# Altium integrated library Diodes - TVS.IntLib: 5379 symbols (part 15 of 122)
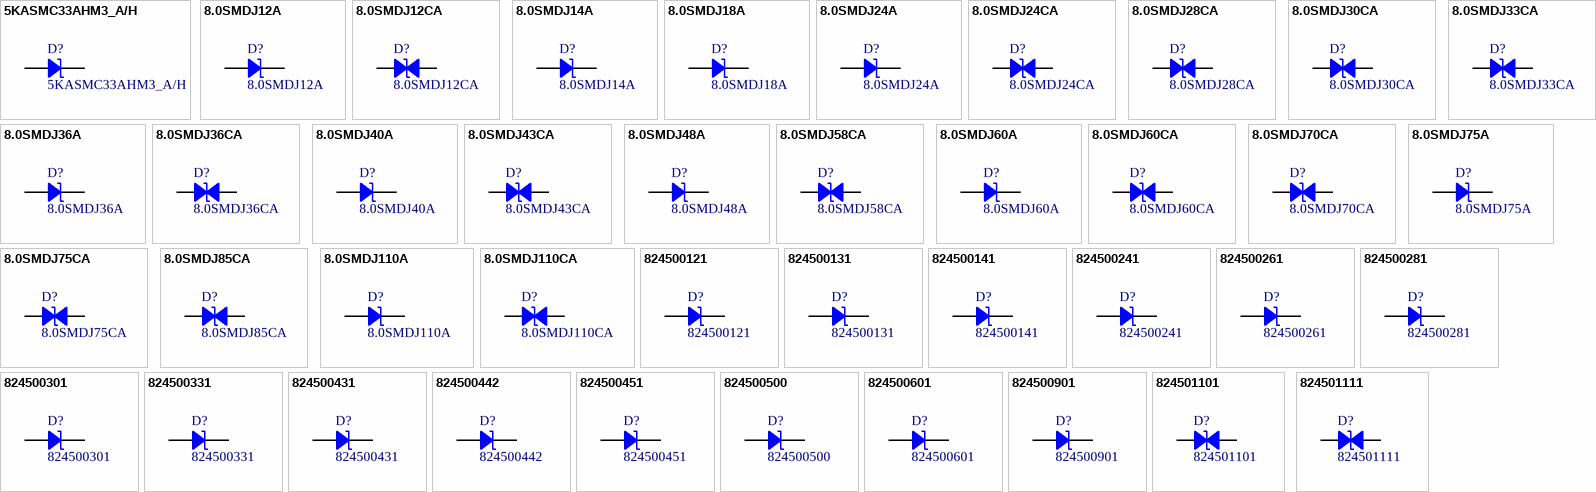
[diagram p148: symbols 5KASMC33AHM3_A/H to 824501111]

## 8.0SMDJ36CA
designator D?
TVS DIODE 8KW 36V 5%BI DO-214AB; Manufacturer: Littelfuse Inc.; Bidirectional Channels: 1; Current - Peak Pulse (10/1000µs): 137.8A; Power Line Protection: No; Power - Peak Pulse: 8000W (8kW); Type: Zener; Voltage - Breakdown (Min): 40V; Voltage - Clamping (Max) @ Ipp: 58.1V; Part Number: 8.0SMDJ36CA; Applications: Telecom; ComponentLink1Description: Datasheet; ComponentLink1URL: https://www.littelfuse.com/~/media/electronics/datasheets/tvs_diodes/littelfuse_tvs_diode_8_0smdj_datasheet.pdf.pdf; ComponentLink2Description: DigiKey Link; ComponentLink2URL: http://digikey.com/product-detail/en/littelfuse-inc/8.0SMDJ36CA/8.0SMDJ36CACT-ND/10269622; LastUpdated: 9/2/2020 1:28:05 AM; Lifecycle Status: Active; Minimum Order: 1; Mounting Type: Surface Mount; Operating Temperature: -65°C ~ 150°C (TJ); Package / Case: DO-214AB, SMC; Packaging: TapeAndReel; PartId: 8365; Part Status: Active; Price: 1.62; Series: 8.0SMDJ; Supplier 1: DigiKey; Supplier Part Number 1: 8.0SMDJ36CACT-ND; Supplier Device Package: DO-214AB (SMCJ); Voltage - Reverse Standoff (Typ): 36V
footprint DO214AB SMC
pins: 1, 2

## 8.0SMDJ40A
designator D?
TVS DIODE 8KW 40V 5%UNI DO-214AB; Manufacturer: Littelfuse Inc.; Current - Peak Pulse (10/1000µs): 124.1A; Power Line Protection: No; Power - Peak Pulse: 8000W (8kW); Type: Zener; Unidirectional Channels: 1; Voltage - Breakdown (Min): 44.4V; Voltage - Clamping (Max) @ Ipp: 64.5V; Part Number: 8.0SMDJ40A; Applications: Telecom; ComponentLink1Description: Datasheet; ComponentLink1URL: https://www.littelfuse.com/~/media/electronics/datasheets/tvs_diodes/littelfuse_tvs_diode_8_0smdj_datasheet.pdf.pdf; ComponentLink2Description: DigiKey Link; ComponentLink2URL: http://digikey.com/product-detail/en/littelfuse-inc/8.0SMDJ40A/8.0SMDJ40ACT-ND/10269623; LastUpdated: 9/2/2020 1:20:03 AM; Lifecycle Status: Active; Minimum Order: 1; Mounting Type: Surface Mount; Operating Temperature: -65°C ~ 150°C (TJ); Package / Case: DO-214AB, SMC; Packaging: TapeAndReel; PartId: 6743; Part Status: Active; Price: 1.49; Series: 8.0SMDJ; Supplier 1: DigiKey; Supplier Part Number 1: 8.0SMDJ40ACT-ND; Supplier Device Package: DO-214AB (SMCJ); Voltage - Reverse Standoff (Typ): 40V
footprint DO214AB SMC
pins: 1, 2

## 8.0SMDJ43CA
designator D?
TVS DIODE 8KW 43V 5%BI DO-214AB; Manufacturer: Littelfuse Inc.; Bidirectional Channels: 1; Current - Peak Pulse (10/1000µs): 115.3A; Power Line Protection: No; Power - Peak Pulse: 8000W (8kW); Type: Zener; Voltage - Breakdown (Min): 47.8V; Voltage - Clamping (Max) @ Ipp: 69.4V; Part Number: 8.0SMDJ43CA; Applications: Telecom; ComponentLink1Description: Datasheet; ComponentLink1URL: https://www.littelfuse.com/~/media/electronics/datasheets/tvs_diodes/littelfuse_tvs_diode_8_0smdj_datasheet.pdf.pdf; ComponentLink2Description: DigiKey Link; ComponentLink2URL: http://digikey.com/product-detail/en/littelfuse-inc/8.0SMDJ43CA/8.0SMDJ43CACT-ND/10269624; LastUpdated: 9/2/2020 1:28:06 AM; Lifecycle Status: Active; Minimum Order: 1; Mounting Type: Surface Mount; Operating Temperature: -65°C ~ 150°C (TJ); Package / Case: DO-214AB, SMC; Packaging: TapeAndReel; PartId: 8470; Part Status: Active; Price: 2.03; Series: 8.0SMDJ; Supplier 1: DigiKey; Supplier Part Number 1: 8.0SMDJ43CACT-ND; Supplier Device Package: DO-214AB (SMCJ); Voltage - Reverse Standoff (Typ): 43V
footprint DO214AB SMC
pins: 1, 2

## 8.0SMDJ48A
designator D?
TVS DIODE 8KW 48V 5%UNI DO-214AB; Manufacturer: Littelfuse Inc.; Current - Peak Pulse (10/1000µs): 103.4A; Power Line Protection: No; Power - Peak Pulse: 8000W (8kW); Type: Zener; Unidirectional Channels: 1; Voltage - Breakdown (Min): 53.3V; Voltage - Clamping (Max) @ Ipp: 77.4V; Part Number: 8.0SMDJ48A; Applications: Telecom; ComponentLink1Description: Datasheet; ComponentLink1URL: https://www.littelfuse.com/~/media/electronics/datasheets/tvs_diodes/littelfuse_tvs_diode_8_0smdj_datasheet.pdf.pdf; ComponentLink2Description: DigiKey Link; ComponentLink2URL: http://digikey.com/product-detail/en/littelfuse-inc/8.0SMDJ48A/8.0SMDJ48ACT-ND/10269625; LastUpdated: 9/2/2020 1:20:05 AM; Lifecycle Status: Active; Minimum Order: 1; Mounting Type: Surface Mount; Operating Temperature: -65°C ~ 150°C (TJ); Package / Case: DO-214AB, SMC; Packaging: TapeAndReel; PartId: 6903; Part Status: Active; Price: 1.76; Series: 8.0SMDJ; Supplier 1: DigiKey; Supplier Part Number 1: 8.0SMDJ48ACT-ND; Supplier Device Package: DO-214AB (SMCJ); Voltage - Reverse Standoff (Typ): 48V
footprint DO214AB SMC
pins: 1, 2

## 8.0SMDJ58CA
designator D?
TVS DIODE 8KW 58V 5%BI DO-214AB; Manufacturer: Littelfuse Inc.; Bidirectional Channels: 1; Current - Peak Pulse (10/1000µs): 85.5A; Power Line Protection: No; Power - Peak Pulse: 8000W (8kW); Type: Zener; Voltage - Breakdown (Min): 64.4V; Voltage - Clamping (Max) @ Ipp: 93.6V; Part Number: 8.0SMDJ58CA; Applications: Telecom; ComponentLink1Description: Datasheet; ComponentLink1URL: https://www.littelfuse.com/~/media/electronics/datasheets/tvs_diodes/littelfuse_tvs_diode_8_0smdj_datasheet.pdf.pdf; ComponentLink2Description: DigiKey Link; ComponentLink2URL: http://digikey.com/product-detail/en/littelfuse-inc/8.0SMDJ58CA/8.0SMDJ58CACT-ND/10269626; LastUpdated: 9/2/2020 1:28:06 AM; Lifecycle Status: Active; Minimum Order: 1; Mounting Type: Surface Mount; Operating Temperature: -65°C ~ 150°C (TJ); Package / Case: DO-214AB, SMC; Packaging: TapeAndReel; PartId: 8469; Part Status: Active; Price: 2.03; Series: 8.0SMDJ; Supplier 1: DigiKey; Supplier Part Number 1: 8.0SMDJ58CACT-ND; Supplier Device Package: DO-214AB (SMCJ); Voltage - Reverse Standoff (Typ): 58V
footprint DO214AB SMC
pins: 1, 2

## 8.0SMDJ60A
designator D?
TVS DIODE 8KW 60V 5%UNI DO-214AB; Manufacturer: Littelfuse Inc.; Current - Peak Pulse (10/1000µs): 82.7A; Power Line Protection: No; Power - Peak Pulse: 8000W (8kW); Type: Zener; Unidirectional Channels: 1; Voltage - Breakdown (Min): 66.7V; Voltage - Clamping (Max) @ Ipp: 96.8V; Part Number: 8.0SMDJ60A; Applications: Telecom; ComponentLink1Description: Datasheet; ComponentLink1URL: https://www.littelfuse.com/~/media/electronics/datasheets/tvs_diodes/littelfuse_tvs_diode_8_0smdj_datasheet.pdf.pdf; ComponentLink2Description: DigiKey Link; ComponentLink2URL: http://digikey.com/product-detail/en/littelfuse-inc/8.0SMDJ60A/8.0SMDJ60ACT-ND/10269627; LastUpdated: 9/2/2020 1:20:05 AM; Lifecycle Status: Active; Minimum Order: 1; Mounting Type: Surface Mount; Operating Temperature: -65°C ~ 150°C (TJ); Package / Case: DO-214AB, SMC; Packaging: TapeAndReel; PartId: 6902; Part Status: Active; Price: 1.76; Series: 8.0SMDJ; Supplier 1: DigiKey; Supplier Part Number 1: 8.0SMDJ60ACT-ND; Supplier Device Package: DO-214AB (SMCJ); Voltage - Reverse Standoff (Typ): 60V
footprint DO214AB SMC
pins: 1, 2

## 8.0SMDJ60CA
designator D?
TVS DIODE 8KW 60V 5%BI DO-214AB; Manufacturer: Littelfuse Inc.; Bidirectional Channels: 1; Current - Peak Pulse (10/1000µs): 82.7A; Power Line Protection: No; Power - Peak Pulse: 8000W (8kW); Type: Zener; Voltage - Breakdown (Min): 66.7V; Voltage - Clamping (Max) @ Ipp: 96.8V; Part Number: 8.0SMDJ60CA; Applications: Telecom; ComponentLink1Description: Datasheet; ComponentLink1URL: https://www.littelfuse.com/~/media/electronics/datasheets/tvs_diodes/littelfuse_tvs_diode_8_0smdj_datasheet.pdf.pdf; ComponentLink2Description: DigiKey Link; ComponentLink2URL: http://digikey.com/product-detail/en/littelfuse-inc/8.0SMDJ60CA/8.0SMDJ60CACT-ND/10269628; LastUpdated: 9/2/2020 1:28:06 AM; Lifecycle Status: Active; Minimum Order: 1; Mounting Type: Surface Mount; Operating Temperature: -65°C ~ 150°C (TJ); Package / Case: DO-214AB, SMC; Packaging: TapeAndReel; PartId: 8468; Part Status: Active; Price: 2.03; Series: 8.0SMDJ; Supplier 1: DigiKey; Supplier Part Number 1: 8.0SMDJ60CACT-ND; Supplier Device Package: DO-214AB (SMCJ); Voltage - Reverse Standoff (Typ): 60V
footprint DO214AB SMC
pins: 1, 2

## 8.0SMDJ70CA
designator D?
TVS DIODE 8KW 70V 5%BI DO-214AB; Manufacturer: Littelfuse Inc.; Bidirectional Channels: 1; Current - Peak Pulse (10/1000µs): 71A; Power Line Protection: No; Power - Peak Pulse: 8000W (8kW); Type: Zener; Voltage - Breakdown (Min): 77.8V; Voltage - Clamping (Max) @ Ipp: 113V; Part Number: 8.0SMDJ70CA; Applications: Telecom; ComponentLink1Description: Datasheet; ComponentLink1URL: https://www.littelfuse.com/~/media/electronics/datasheets/tvs_diodes/littelfuse_tvs_diode_8_0smdj_datasheet.pdf.pdf; ComponentLink2Description: DigiKey Link; ComponentLink2URL: http://digikey.com/product-detail/en/littelfuse-inc/8.0SMDJ70CA/8.0SMDJ70CACT-ND/10269629; LastUpdated: 9/2/2020 1:28:06 AM; Lifecycle Status: Active; Minimum Order: 1; Mounting Type: Surface Mount; Operating Temperature: -65°C ~ 150°C (TJ); Package / Case: DO-214AB, SMC; Packaging: TapeAndReel; PartId: 8466; Part Status: Active; Price: 2.03; Series: 8.0SMDJ; Supplier 1: DigiKey; Supplier Part Number 1: 8.0SMDJ70CACT-ND; Supplier Device Package: DO-214AB (SMCJ); Voltage - Reverse Standoff (Typ): 70V
footprint DO214AB SMC
pins: 1, 2

## 8.0SMDJ75A
designator D?
TVS DIODE 8KW 75V 5%UNI DO-214AB; Manufacturer: Littelfuse Inc.; Current - Peak Pulse (10/1000µs): 66.2A; Power Line Protection: No; Power - Peak Pulse: 8000W (8kW); Type: Zener; Unidirectional Channels: 1; Voltage - Breakdown (Min): 83.3V; Voltage - Clamping (Max) @ Ipp: 121V; Part Number: 8.0SMDJ75A; Applications: Telecom; ComponentLink1Description: Datasheet; ComponentLink1URL: https://www.littelfuse.com/~/media/electronics/datasheets/tvs_diodes/littelfuse_tvs_diode_8_0smdj_datasheet.pdf.pdf; ComponentLink2Description: DigiKey Link; ComponentLink2URL: http://digikey.com/product-detail/en/littelfuse-inc/8.0SMDJ75A/8.0SMDJ75ACT-ND/10269630; LastUpdated: 9/2/2020 1:20:03 AM; Lifecycle Status: Active; Minimum Order: 1; Mounting Type: Surface Mount; Operating Temperature: -65°C ~ 150°C (TJ); Package / Case: DO-214AB, SMC; Packaging: TapeAndReel; PartId: 6741; Part Status: Active; Price: 1.76; Series: 8.0SMDJ; Supplier 1: DigiKey; Supplier Part Number 1: 8.0SMDJ75ACT-ND; Supplier Device Package: DO-214AB (SMCJ); Voltage - Reverse Standoff (Typ): 75V
footprint DO214AB SMC
pins: 1, 2

## 8.0SMDJ75CA
designator D?
TVS DIODE 8KW 75V 5%BI DO-214AB; Manufacturer: Littelfuse Inc.; Bidirectional Channels: 1; Current - Peak Pulse (10/1000µs): 66.2A; Power Line Protection: No; Power - Peak Pulse: 8000W (8kW); Type: Zener; Voltage - Breakdown (Min): 83.3V; Voltage - Clamping (Max) @ Ipp: 121V; Part Number: 8.0SMDJ75CA; Applications: Telecom; ComponentLink1Description: Datasheet; ComponentLink1URL: https://www.littelfuse.com/~/media/electronics/datasheets/tvs_diodes/littelfuse_tvs_diode_8_0smdj_datasheet.pdf.pdf; ComponentLink2Description: DigiKey Link; ComponentLink2URL: http://digikey.com/product-detail/en/littelfuse-inc/8.0SMDJ75CA/8.0SMDJ75CACT-ND/10269631; LastUpdated: 9/2/2020 1:28:05 AM; Lifecycle Status: Active; Minimum Order: 1; Mounting Type: Surface Mount; Operating Temperature: -65°C ~ 150°C (TJ); Package / Case: DO-214AB, SMC; Packaging: TapeAndReel; PartId: 8363; Part Status: Active; Price: 2.03; Series: 8.0SMDJ; Supplier 1: DigiKey; Supplier Part Number 1: 8.0SMDJ75CACT-ND; Supplier Device Package: DO-214AB (SMCJ); Voltage - Reverse Standoff (Typ): 75V
footprint DO214AB SMC
pins: 1, 2

## 8.0SMDJ85CA
designator D?
TVS DIODE 8KW 85V 5%BI DO-214AB; Manufacturer: Littelfuse Inc.; Bidirectional Channels: 1; Current - Peak Pulse (10/1000µs): 58.4A; Power Line Protection: No; Power - Peak Pulse: 8000W (8kW); Type: Zener; Voltage - Breakdown (Min): 94.4V; Voltage - Clamping (Max) @ Ipp: 137V; Part Number: 8.0SMDJ85CA; Applications: Telecom; ComponentLink1Description: Datasheet; ComponentLink1URL: https://www.littelfuse.com/~/media/electronics/datasheets/tvs_diodes/littelfuse_tvs_diode_8_0smdj_datasheet.pdf.pdf; ComponentLink2Description: DigiKey Link; ComponentLink2URL: http://digikey.com/product-detail/en/littelfuse-inc/8.0SMDJ85CA/8.0SMDJ85CACT-ND/10269609; LastUpdated: 9/2/2020 1:28:06 AM; Lifecycle Status: Active; Minimum Order: 1; Mounting Type: Surface Mount; Operating Temperature: -65°C ~ 150°C (TJ); Package / Case: DO-214AB, SMC; Packaging: TapeAndReel; PartId: 8467; Part Status: Active; Price: 2.03; Series: 8.0SMDJ; Supplier 1: DigiKey; Supplier Part Number 1: 8.0SMDJ85CACT-ND; Supplier Device Package: DO-214AB (SMCJ); Voltage - Reverse Standoff (Typ): 85V
footprint DO214AB SMC
pins: 1, 2

## 8.0SMDJ110A
designator D?
TVS DIODE 8KW 110V 5%UNI DO-214A; Manufacturer: Littelfuse Inc.; Current - Peak Pulse (10/1000µs): 45.2A; Power Line Protection: No; Power - Peak Pulse: 8000W (8kW); Type: Zener; Unidirectional Channels: 1; Voltage - Breakdown (Min): 122V; Voltage - Clamping (Max) @ Ipp: 177V; Part Number: 8.0SMDJ110A; Applications: Telecom; ComponentLink1Description: Datasheet; ComponentLink1URL: https://www.littelfuse.com/~/media/electronics/datasheets/tvs_diodes/littelfuse_tvs_diode_8_0smdj_datasheet.pdf.pdf; ComponentLink2Description: DigiKey Link; ComponentLink2URL: http://digikey.com/product-detail/en/littelfuse-inc/8.0SMDJ110A/8.0SMDJ110ACT-ND/10269610; LastUpdated: 9/2/2020 1:20:03 AM; Lifecycle Status: Active; Minimum Order: 1; Mounting Type: Surface Mount; Operating Temperature: -65°C ~ 150°C (TJ); Package / Case: DO-214AB, SMC; Packaging: TapeAndReel; PartId: 6742; Part Status: Active; Price: 1.76; Series: 8.0SMDJ; Supplier 1: DigiKey; Supplier Part Number 1: 8.0SMDJ110ACT-ND; Supplier Device Package: DO-214AB (SMCJ); Voltage - Reverse Standoff (Typ): 110V
footprint DO214AB SMC
pins: 1, 2

## 8.0SMDJ110CA
designator D?
TVS DIODE 8KW 110V 5%BI DO-214AB; Manufacturer: Littelfuse Inc.; Bidirectional Channels: 1; Current - Peak Pulse (10/1000µs): 45.2A; Power Line Protection: No; Power - Peak Pulse: 8000W (8kW); Type: Zener; Voltage - Breakdown (Min): 122V; Voltage - Clamping (Max) @ Ipp: 177V; Part Number: 8.0SMDJ110CA; Applications: Telecom; ComponentLink1Description: Datasheet; ComponentLink1URL: https://www.littelfuse.com/~/media/electronics/datasheets/tvs_diodes/littelfuse_tvs_diode_8_0smdj_datasheet.pdf.pdf; ComponentLink2Description: DigiKey Link; ComponentLink2URL: http://digikey.com/product-detail/en/littelfuse-inc/8.0SMDJ110CA/8.0SMDJ110CACT-ND/10269611; LastUpdated: 9/2/2020 1:28:05 AM; Lifecycle Status: Active; Minimum Order: 1; Mounting Type: Surface Mount; Operating Temperature: -65°C ~ 150°C (TJ); Package / Case: DO-214AB, SMC; Packaging: TapeAndReel; PartId: 8364; Part Status: Active; Price: 2.03; Series: 8.0SMDJ; Supplier 1: DigiKey; Supplier Part Number 1: 8.0SMDJ110CACT-ND; Supplier Device Package: DO-214AB (SMCJ); Voltage - Reverse Standoff (Typ): 110V
footprint DO214AB SMC
pins: 1, 2

## 824500121
designator D?
TVS DIODE 12V 19.9V DO214AC; Manufacturer: Würth Elektronik; Current - Peak Pulse (10/1000µs): 20.1A; Power Line Protection: No; Power - Peak Pulse: 400W; Type: Zener; Unidirectional Channels: 1; Voltage - Breakdown (Min): 14V (Typ); Voltage - Reverse Standoff (Typ): 12V (Max); Part Number: 824500121; Applications: General Purpose; ComponentLink1Description: Datasheet; ComponentLink1URL: https://katalog.we-online.de/pbs/datasheet/824500121.pdf; ComponentLink2Description: DigiKey Link; ComponentLink2URL: http://digikey.com/product-detail/en/w-rth-elektronik/824500121/732-9984-1-ND/5871137; LastUpdated: 9/2/2020 1:20:17 AM; Lifecycle Status: Active; Minimum Order: 1; Mounting Type: Surface Mount; Operating Temperature: -65°C ~ 150°C (TJ); Package / Case: DO-214AC, SMA; Packaging: TapeAndReel; PartId: 6085; Part Status: Active; Price: 0.17; Series: WE-TVSP; Supplier 1: DigiKey; Supplier Part Number 1: 732-9984-1-ND; Supplier Device Package: DO-214AC; Voltage - Clamping (Max) @ Ipp: 19.9V
footprint DO214AC SMA
pins: 1, 2

## 824500131
designator D?
TVS DIODE 13V 21.5V DO214AC; Manufacturer: Würth Elektronik; Current - Peak Pulse (10/1000µs): 18.6A; Power Line Protection: No; Power - Peak Pulse: 400W; Type: Zener; Unidirectional Channels: 1; Voltage - Breakdown (Min): 15.15V (Typ); Voltage - Reverse Standoff (Typ): 13V (Max); Part Number: 824500131; Applications: General Purpose; ComponentLink1Description: Datasheet; ComponentLink1URL: https://katalog.we-online.de/pbs/datasheet/824500131.pdf; ComponentLink2Description: DigiKey Link; ComponentLink2URL: http://digikey.com/product-detail/en/w-rth-elektronik/824500131/732-9985-1-ND/5871138; LastUpdated: 9/2/2020 1:20:17 AM; Lifecycle Status: Active; Minimum Order: 1; Mounting Type: Surface Mount; Operating Temperature: -65°C ~ 150°C (TJ); Package / Case: DO-214AC, SMA; Packaging: TapeAndReel; PartId: 6082; Part Status: Active; Price: 0.17; Series: WE-TVSP; Supplier 1: DigiKey; Supplier Part Number 1: 732-9985-1-ND; Supplier Device Package: DO-214AC; Voltage - Clamping (Max) @ Ipp: 21.5V
footprint DO214AC SMA
pins: 1, 2

## 824500141
designator D?
TVS DIODE 14V 23.2V DO214AC; Manufacturer: Würth Elektronik; Current - Peak Pulse (10/1000µs): 17.2A; Power Line Protection: No; Power - Peak Pulse: 400W; Type: Zener; Unidirectional Channels: 1; Voltage - Breakdown (Min): 16.4V (Typ); Voltage - Reverse Standoff (Typ): 14V (Max); Part Number: 824500141; Applications: General Purpose; ComponentLink1Description: Datasheet; ComponentLink1URL: https://katalog.we-online.de/pbs/datasheet/824500141.pdf; ComponentLink2Description: DigiKey Link; ComponentLink2URL: http://digikey.com/product-detail/en/w-rth-elektronik/824500141/732-9986-1-ND/5871139; LastUpdated: 9/2/2020 1:20:17 AM; Lifecycle Status: Active; Minimum Order: 1; Mounting Type: Surface Mount; Operating Temperature: -65°C ~ 150°C (TJ); Package / Case: DO-214AC, SMA; Packaging: TapeAndReel; PartId: 6086; Part Status: Active; Price: 0.17; Series: WE-TVSP; Supplier 1: DigiKey; Supplier Part Number 1: 732-9986-1-ND; Supplier Device Package: DO-214AC; Voltage - Clamping (Max) @ Ipp: 23.2V
footprint DO214AC SMA
pins: 1, 2

## 824500241
designator D?
TVS DIODE 24V 38.9V DO214AC; Manufacturer: Würth Elektronik; Current - Peak Pulse (10/1000µs): 10.3A; Power Line Protection: No; Power - Peak Pulse: 400W; Type: Zener; Unidirectional Channels: 1; Voltage - Breakdown (Min): 28.1V (Typ); Voltage - Reverse Standoff (Typ): 24V (Max); Part Number: 824500241; Applications: General Purpose; ComponentLink1Description: Datasheet; ComponentLink1URL: https://katalog.we-online.de/pbs/datasheet/824500241.pdf; ComponentLink2Description: DigiKey Link; ComponentLink2URL: http://digikey.com/product-detail/en/w-rth-elektronik/824500241/732-9991-1-ND/5871144; LastUpdated: 9/2/2020 1:20:13 AM; Lifecycle Status: Active; Minimum Order: 1; Mounting Type: Surface Mount; Operating Temperature: -65°C ~ 150°C (TJ); Package / Case: DO-214AC, SMA; Packaging: TapeAndReel; PartId: 5614; Part Status: Active; Price: 0.17; Series: WE-TVSP; Supplier 1: DigiKey; Supplier Part Number 1: 732-9991-1-ND; Supplier Device Package: DO-214AC; Voltage - Clamping (Max) @ Ipp: 38.9V
footprint DO214AC SMA
pins: 1, 2

## 824500261
designator D?
TVS DIODE 26V 42.1V DO214AC; Manufacturer: Würth Elektronik; Current - Peak Pulse (10/1000µs): 9.5A; Power Line Protection: No; Power - Peak Pulse: 400W; Type: Zener; Unidirectional Channels: 1; Voltage - Breakdown (Min): 30.4V (Typ); Voltage - Reverse Standoff (Typ): 26V (Max); Part Number: 824500261; Applications: General Purpose; ComponentLink1Description: Datasheet; ComponentLink1URL: https://katalog.we-online.de/pbs/datasheet/824500261.pdf; ComponentLink2Description: DigiKey Link; ComponentLink2URL: http://digikey.com/product-detail/en/w-rth-elektronik/824500261/732-9987-1-ND/5871140; LastUpdated: 9/2/2020 1:20:17 AM; Lifecycle Status: Active; Minimum Order: 1; Mounting Type: Surface Mount; Operating Temperature: -65°C ~ 150°C (TJ); Package / Case: DO-214AC, SMA; Packaging: TapeAndReel; PartId: 6084; Part Status: Active; Price: 0.17; Series: WE-TVSP; Supplier 1: DigiKey; Supplier Part Number 1: 732-9987-1-ND; Supplier Device Package: DO-214AC; Voltage - Clamping (Max) @ Ipp: 42.1V
footprint DO214AC SMA
pins: 1, 2

## 824500281
designator D?
TVS DIODE 28V 45.4V DO214AC; Manufacturer: Würth Elektronik; Current - Peak Pulse (10/1000µs): 8.8A; Power Line Protection: No; Power - Peak Pulse: 400W; Type: Zener; Unidirectional Channels: 1; Voltage - Breakdown (Min): 32.75V (Typ); Voltage - Reverse Standoff (Typ): 28V (Max); Part Number: 824500281; Applications: General Purpose; ComponentLink1Description: Datasheet; ComponentLink1URL: https://katalog.we-online.de/pbs/datasheet/824500281.pdf; ComponentLink2Description: DigiKey Link; ComponentLink2URL: http://digikey.com/product-detail/en/w-rth-elektronik/824500281/732-9988-1-ND/5871141; LastUpdated: 9/2/2020 1:20:17 AM; Lifecycle Status: Active; Minimum Order: 0; Mounting Type: Surface Mount; Operating Temperature: -65°C ~ 150°C (TJ); Package / Case: DO-214AC, SMA; Packaging: TapeAndReel; PartId: 6087; Part Status: Active; Price: 0.17; Series: WE-TVSP; Supplier 1: DigiKey; Supplier Part Number 1: 732-9988-1-ND; Supplier Device Package: DO-214AC; Voltage - Clamping (Max) @ Ipp: 45.4V
footprint DO214AC SMA
pins: 1, 2

## 824500301
designator D?
TVS DIODE 30V 48.4V DO214AC; Manufacturer: Würth Elektronik; Current - Peak Pulse (10/1000µs): 8.3A; Power Line Protection: No; Power - Peak Pulse: 400W; Type: Zener; Unidirectional Channels: 1; Voltage - Breakdown (Min): 35.05V (Typ); Voltage - Reverse Standoff (Typ): 30V (Max); Part Number: 824500301; Applications: General Purpose; ComponentLink1Description: Datasheet; ComponentLink1URL: https://katalog.we-online.de/pbs/datasheet/824500301.pdf; ComponentLink2Description: DigiKey Link; ComponentLink2URL: http://digikey.com/product-detail/en/w-rth-elektronik/824500301/732-9993-1-ND/5871146; LastUpdated: 9/2/2020 1:20:17 AM; Lifecycle Status: Active; Minimum Order: 1; Mounting Type: Surface Mount; Operating Temperature: -65°C ~ 150°C (TJ); Package / Case: DO-214AC, SMA; Packaging: TapeAndReel; PartId: 6083; Part Status: Active; Price: 0.17; Series: WE-TVSP; Supplier 1: DigiKey; Supplier Part Number 1: 732-9993-1-ND; Supplier Device Package: DO-214AC; Voltage - Clamping (Max) @ Ipp: 48.4V
footprint DO214AC SMA
pins: 1, 2

## 824500331
designator D?
TVS DIODE 33V 53.3V DO214AC; Manufacturer: Würth Elektronik; Current - Peak Pulse (10/1000µs): 7.5A; Power Line Protection: No; Power - Peak Pulse: 400W; Type: Zener; Unidirectional Channels: 1; Voltage - Breakdown (Min): 38.65V (Typ); Voltage - Reverse Standoff (Typ): 33V (Max); Part Number: 824500331; Applications: General Purpose; ComponentLink1Description: Datasheet; ComponentLink1URL: https://katalog.we-online.de/pbs/datasheet/824500331.pdf; ComponentLink2Description: DigiKey Link; ComponentLink2URL: http://digikey.com/product-detail/en/w-rth-elektronik/824500331/732-9994-1-ND/5871147; LastUpdated: 9/2/2020 1:20:17 AM; Lifecycle Status: Active; Minimum Order: 0; Mounting Type: Surface Mount; Operating Temperature: -65°C ~ 150°C (TJ); Package / Case: DO-214AC, SMA; Packaging: TapeAndReel; PartId: 6088; Part Status: Active; Price: 0.17; Series: WE-TVSP; Supplier 1: DigiKey; Supplier Part Number 1: 732-9994-1-ND; Supplier Device Package: DO-214AC; Voltage - Clamping (Max) @ Ipp: 53.3V
footprint DO214AC SMA
pins: 1, 2

## 824500431
designator D?
TVS DIODE 43V 69.4V DO214AC; Manufacturer: Würth Elektronik; Current - Peak Pulse (10/1000µs): 5.8A; Power Line Protection: No; Power - Peak Pulse: 400W; Type: Zener; Unidirectional Channels: 1; Voltage - Breakdown (Min): 50.3V (Typ); Voltage - Reverse Standoff (Typ): 43V (Max); Part Number: 824500431; Applications: General Purpose; ComponentLink1Description: Datasheet; ComponentLink1URL: https://katalog.we-online.de/pbs/datasheet/824500431.pdf; ComponentLink2Description: DigiKey Link; ComponentLink2URL: http://digikey.com/product-detail/en/w-rth-elektronik/824500431/732-9996-1-ND/5871149; LastUpdated: 9/2/2020 1:20:17 AM; Lifecycle Status: Active; Minimum Order: 1; Mounting Type: Surface Mount; Operating Temperature: -65°C ~ 150°C (TJ); Package / Case: DO-214AC, SMA; Packaging: TapeAndReel; PartId: 6081; Part Status: Active; Price: 0.17; Series: WE-TVSP; Supplier 1: DigiKey; Supplier Part Number 1: 732-9996-1-ND; Supplier Device Package: DO-214AC; Voltage - Clamping (Max) @ Ipp: 69.4V
footprint DO214AC SMA
pins: 1, 2

## 824500442
designator D?
WE-TVSP POWER TVS DIODE; Manufacturer: Würth Elektronik; Current - Peak Pulse (10/1000µs): 40A; Power Line Protection: No; Type: Zener; Unidirectional Channels: 1; Voltage - Breakdown (Min): 517.5V; Voltage - Clamping (Max) @ Ipp: 713V; Voltage - Reverse Standoff (Typ): 440V (Max); Part Number: 824500442; Applications: General Purpose; ComponentLink2Description: DigiKey Link; ComponentLink2URL: http://digikey.com/product-detail/en/würth-elektronik/824500442/732-824500442CT-ND/12727237; LastUpdated: 8/30/2020 9:01:15 PM; Lifecycle Status: Active; Minimum Order: 1; Mounting Type: Surface Mount; Operating Temperature: -65°C ~ 150°C (TA); Package / Case: DO-214AC, SMA; Packaging: TapeAndReel; PartId: 11474; Price: 0.40; Series: WE-TVSP; Supplier 1: DigiKey; Supplier Part Number 1: 732-824500442CT-ND; Supplier Device Package: DO-214AC
footprint DO214AC SMA
pins: 1, 2

## 824500451
designator D?
TVS DIODE 45V 72.7V DO214AC; Manufacturer: Würth Elektronik; Current - Peak Pulse (10/1000µs): 5.5A; Power Line Protection: No; Power - Peak Pulse: 400W; Type: Zener; Unidirectional Channels: 1; Voltage - Breakdown (Min): 52.65V (Typ); Voltage - Reverse Standoff (Typ): 45V (Max); Part Number: 824500451; Applications: General Purpose; ComponentLink1Description: Datasheet; ComponentLink1URL: https://katalog.we-online.de/pbs/datasheet/824500451.pdf; ComponentLink2Description: DigiKey Link; ComponentLink2URL: http://digikey.com/product-detail/en/w-rth-elektronik/824500451/732-9997-1-ND/5871150; LastUpdated: 9/2/2020 1:20:13 AM; Lifecycle Status: Active; Minimum Order: 1; Mounting Type: Surface Mount; Operating Temperature: -65°C ~ 150°C (TJ); Package / Case: DO-214AC, SMA; Packaging: TapeAndReel; PartId: 5622; Part Status: Active; Price: 0.17; Series: WE-TVSP; Supplier 1: DigiKey; Supplier Part Number 1: 732-9997-1-ND; Supplier Device Package: DO-214AC; Voltage - Clamping (Max) @ Ipp: 72.7V
footprint DO214AC SMA
pins: 1, 2

## 824500500
designator D?
TVS DIODE 5V 9.2V DO214AC; Manufacturer: Würth Elektronik; Current - Peak Pulse (10/1000µs): 43.5A; Power Line Protection: No; Power - Peak Pulse: 400W; Type: Zener; Unidirectional Channels: 1; Voltage - Breakdown (Min): 6.7V (Typ); Voltage - Reverse Standoff (Typ): 5V (Max); Part Number: 824500500; Applications: General Purpose; ComponentLink1Description: Datasheet; ComponentLink1URL: https://katalog.we-online.de/pbs/datasheet/824500500.pdf; ComponentLink2Description: DigiKey Link; ComponentLink2URL: http://digikey.com/product-detail/en/w-rth-elektronik/824500500/732-9974-1-ND/5871127; LastUpdated: 9/2/2020 1:20:18 AM; Lifecycle Status: Active; Minimum Order: 1; Mounting Type: Surface Mount; Operating Temperature: -65°C ~ 150°C (TJ); Package / Case: DO-214AC, SMA; Packaging: TapeAndReel; PartId: 6137; Part Status: Active; Price: 0.17; Series: WE-TVSP; Supplier 1: DigiKey; Supplier Part Number 1: 732-9974-1-ND; Supplier Device Package: DO-214AC; Voltage - Clamping (Max) @ Ipp: 9.2V
footprint DO214AC SMA
pins: 1, 2

## 824500601
designator D?
TVS DIODE 60V 96.8V DO214AC; Manufacturer: Würth Elektronik; Current - Peak Pulse (10/1000µs): 4.1A; Power Line Protection: No; Power - Peak Pulse: 400W; Type: Zener; Unidirectional Channels: 1; Voltage - Breakdown (Min): 70.2V (Typ); Voltage - Reverse Standoff (Typ): 60V (Max); Part Number: 824500601; Applications: General Purpose; ComponentLink1Description: Datasheet; ComponentLink1URL: https://katalog.we-online.de/pbs/datasheet/824500601.pdf; ComponentLink2Description: DigiKey Link; ComponentLink2URL: http://digikey.com/product-detail/en/w-rth-elektronik/824500601/732-10001-1-ND/5871154; LastUpdated: 9/2/2020 1:20:17 AM; Lifecycle Status: Active; Minimum Order: 1; Mounting Type: Surface Mount; Operating Temperature: -65°C ~ 150°C (TJ); Package / Case: DO-214AC, SMA; Packaging: TapeAndReel; PartId: 6090; Part Status: Active; Price: 0.17; Series: WE-TVSP; Supplier 1: DigiKey; Supplier Part Number 1: 732-10001-1-ND; Supplier Device Package: DO-214AC; Voltage - Clamping (Max) @ Ipp: 96.8V
footprint DO214AC SMA
pins: 1, 2

## 824500901
designator D?
TVS DIODE 90V 146V DO214AC; Manufacturer: Würth Elektronik; Current - Peak Pulse (10/1000µs): 2.7A; Power Line Protection: No; Power - Peak Pulse: 400W; Type: Zener; Unidirectional Channels: 1; Voltage - Breakdown (Min): 105.5V (Typ); Voltage - Reverse Standoff (Typ): 90V (Max); Part Number: 824500901; Applications: General Purpose; ComponentLink1Description: Datasheet; ComponentLink1URL: https://katalog.we-online.de/pbs/datasheet/824500901.pdf; ComponentLink2Description: DigiKey Link; ComponentLink2URL: http://digikey.com/product-detail/en/w-rth-elektronik/824500901/732-10007-1-ND/5871160; LastUpdated: 9/2/2020 1:20:17 AM; Lifecycle Status: Active; Minimum Order: 0; Mounting Type: Surface Mount; Operating Temperature: -65°C ~ 150°C (TJ); Package / Case: DO-214AC, SMA; Packaging: TapeAndReel; PartId: 6089; Part Status: Active; Price: 0.17; Series: WE-TVSP; Supplier 1: DigiKey; Supplier Part Number 1: 732-10007-1-ND; Supplier Device Package: DO-214AC; Voltage - Clamping (Max) @ Ipp: 146V
footprint DO214AC SMA
pins: 1, 2

## 824501101
designator D?
TVS DIODE 10V 17V DO214AC; Manufacturer: Würth Elektronik; Bidirectional Channels: 1; Current - Peak Pulse (10/1000µs): 23.5A; Power Line Protection: No; Power - Peak Pulse: 400W; Type: Zener; Voltage - Breakdown (Min): 11.7V (Typ); Voltage - Reverse Standoff (Typ): 10V (Max); Part Number: 824501101; Applications: General Purpose; ComponentLink1Description: Datasheet; ComponentLink1URL: https://katalog.we-online.de/pbs/datasheet/824501101.pdf; ComponentLink2Description: DigiKey Link; ComponentLink2URL: http://digikey.com/product-detail/en/w-rth-elektronik/824501101/732-9947-1-ND/5871101; LastUpdated: 9/2/2020 1:27:53 AM; Lifecycle Status: Active; Minimum Order: 1; Mounting Type: Surface Mount; Operating Temperature: -65°C ~ 150°C (TJ); Package / Case: DO-214AC, SMA; Packaging: TapeAndReel; PartId: 7631; Part Status: Active; Price: 0.17; Series: WE-TVSP; Supplier 1: DigiKey; Supplier Part Number 1: 732-9947-1-ND; Supplier Device Package: DO-214AC; Voltage - Clamping (Max) @ Ipp: 17V
footprint DO214AC SMA
pins: 1, 2

## 824501111
designator D?
TVS DIODE 11V 18.2V DO214AC; Manufacturer: Würth Elektronik; Bidirectional Channels: 1; Current - Peak Pulse (10/1000µs): 22A; Power Line Protection: No; Power - Peak Pulse: 400W; Type: Zener; Voltage - Breakdown (Min): 12.85V (Typ); Voltage - Reverse Standoff (Typ): 11V (Max); Part Number: 824501111; Applications: General Purpose; ComponentLink1Description: Datasheet; ComponentLink1URL: https://katalog.we-online.de/pbs/datasheet/824501111.pdf; ComponentLink2Description: DigiKey Link; ComponentLink2URL: http://digikey.com/product-detail/en/w-rth-elektronik/824501111/732-9948-1-ND/5871102; LastUpdated: 9/2/2020 1:27:51 AM; Lifecycle Status: Active; Minimum Order: 1; Mounting Type: Surface Mount; Operating Temperature: -65°C ~ 150°C (TJ); Package / Case: DO-214AC, SMA; Packaging: TapeAndReel; PartId: 7334; Part Status: Active; Price: 0.17; Series: WE-TVSP; Supplier 1: DigiKey; Supplier Part Number 1: 732-9948-1-ND; Supplier Device Package: DO-214AC; Voltage - Clamping (Max) @ Ipp: 18.2V
footprint DO214AC SMA
pins: 1, 2

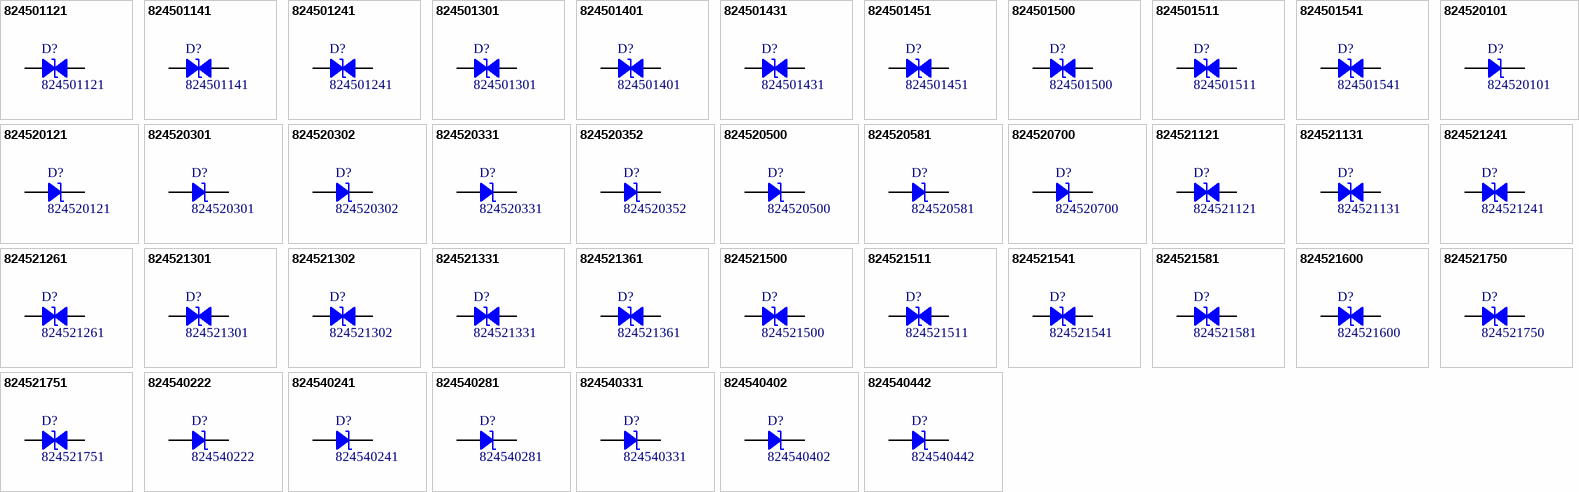
[diagram p16: symbols 824501121 to 824540442]

## 824501121
designator D?
TVS DIODE 12V 19.9V DO214AC; Manufacturer: Würth Elektronik; Bidirectional Channels: 1; Current - Peak Pulse (10/1000µs): 20.1A; Power Line Protection: No; Power - Peak Pulse: 400W; Type: Zener; Voltage - Breakdown (Min): 14V (Typ); Voltage - Reverse Standoff (Typ): 12V (Max); Part Number: 824501121; Applications: General Purpose; ComponentLink1Description: Datasheet; ComponentLink1URL: https://katalog.we-online.de/pbs/datasheet/824501121.pdf; ComponentLink2Description: DigiKey Link; ComponentLink2URL: http://digikey.com/product-detail/en/w-rth-elektronik/824501121/732-9949-1-ND/5871103; LastUpdated: 9/2/2020 1:27:55 AM; Lifecycle Status: Active; Minimum Order: 1; Mounting Type: Surface Mount; Operating Temperature: -65°C ~ 150°C (TJ); Package / Case: DO-214AC, SMA; Packaging: TapeAndReel; PartId: 7760; Part Status: Active; Price: 0.17; Series: WE-TVSP; Supplier 1: DigiKey; Supplier Part Number 1: 732-9949-1-ND; Supplier Device Package: DO-214AC; Voltage - Clamping (Max) @ Ipp: 19.9V
footprint DO214AC SMA
pins: 1, 2

## 824501141
designator D?
TVS DIODE 14V 23.2V DO214AC; Manufacturer: Würth Elektronik; Bidirectional Channels: 1; Current - Peak Pulse (10/1000µs): 17.2A; Power Line Protection: No; Power - Peak Pulse: 400W; Type: Zener; Voltage - Breakdown (Min): 16.4V (Typ); Voltage - Reverse Standoff (Typ): 14V (Max); Part Number: 824501141; Applications: General Purpose; ComponentLink1Description: Datasheet; ComponentLink1URL: https://katalog.we-online.de/pbs/datasheet/824501141.pdf; ComponentLink2Description: DigiKey Link; ComponentLink2URL: http://digikey.com/product-detail/en/w-rth-elektronik/824501141/732-9951-1-ND/5871104; LastUpdated: 9/2/2020 1:27:53 AM; Lifecycle Status: Active; Minimum Order: 0; Mounting Type: Surface Mount; Operating Temperature: -65°C ~ 150°C (TJ); Package / Case: DO-214AC, SMA; Packaging: TapeAndReel; PartId: 7636; Part Status: Active; Price: 0.17; Series: WE-TVSP; Supplier 1: DigiKey; Supplier Part Number 1: 732-9951-1-ND; Supplier Device Package: DO-214AC; Voltage - Clamping (Max) @ Ipp: 23.2V
footprint DO214AC SMA
pins: 1, 2

## 824501241
designator D?
TVS DIODE 24V 38.9V DO214AC; Manufacturer: Würth Elektronik; Bidirectional Channels: 1; Current - Peak Pulse (10/1000µs): 10.3A; Power Line Protection: No; Power - Peak Pulse: 400W; Type: Zener; Voltage - Breakdown (Min): 28.1V (Typ); Voltage - Reverse Standoff (Typ): 24V (Max); Part Number: 824501241; Applications: General Purpose; ComponentLink1Description: Datasheet; ComponentLink1URL: https://katalog.we-online.de/pbs/datasheet/824501241.pdf; ComponentLink2Description: DigiKey Link; ComponentLink2URL: http://digikey.com/product-detail/en/w-rth-elektronik/824501241/732-9956-1-ND/5871109; LastUpdated: 9/2/2020 1:27:53 AM; Lifecycle Status: Active; Minimum Order: 1; Mounting Type: Surface Mount; Operating Temperature: -65°C ~ 150°C (TJ); Package / Case: DO-214AC, SMA; Packaging: TapeAndReel; PartId: 7634; Part Status: Active; Price: 0.17; Series: WE-TVSP; Supplier 1: DigiKey; Supplier Part Number 1: 732-9956-1-ND; Supplier Device Package: DO-214AC; Voltage - Clamping (Max) @ Ipp: 38.9V
footprint DO214AC SMA
pins: 1, 2

## 824501301
designator D?
TVS DIODE 30V 48.4V DO214AC; Manufacturer: Würth Elektronik; Bidirectional Channels: 1; Current - Peak Pulse (10/1000µs): 8.3A; Power Line Protection: No; Power - Peak Pulse: 400W; Type: Zener; Voltage - Breakdown (Min): 35.05V (Typ); Voltage - Reverse Standoff (Typ): 30V (Max); Part Number: 824501301; Applications: General Purpose; ComponentLink1Description: Datasheet; ComponentLink1URL: https://katalog.we-online.de/pbs/datasheet/824501301.pdf; ComponentLink2Description: DigiKey Link; ComponentLink2URL: http://digikey.com/product-detail/en/w-rth-elektronik/824501301/732-9958-1-ND/5871111; LastUpdated: 9/2/2020 1:27:53 AM; Lifecycle Status: Active; Minimum Order: 1; Mounting Type: Surface Mount; Operating Temperature: -65°C ~ 150°C (TJ); Package / Case: DO-214AC, SMA; Packaging: TapeAndReel; PartId: 7629; Part Status: Active; Price: 0.17; Series: WE-TVSP; Supplier 1: DigiKey; Supplier Part Number 1: 732-9958-1-ND; Supplier Device Package: DO-214AC; Voltage - Clamping (Max) @ Ipp: 48.4V
footprint DO214AC SMA
pins: 1, 2

## 824501401
designator D?
TVS DIODE 40V 64.5V DO214AC; Manufacturer: Würth Elektronik; Bidirectional Channels: 1; Current - Peak Pulse (10/1000µs): 6.1A; Power Line Protection: No; Power - Peak Pulse: 400W; Type: Zener; Voltage - Breakdown (Min): 46.75V (Typ); Voltage - Reverse Standoff (Typ): 40V (Max); Part Number: 824501401; Applications: General Purpose; ComponentLink1Description: Datasheet; ComponentLink1URL: https://katalog.we-online.de/pbs/datasheet/824501401.pdf; ComponentLink2Description: DigiKey Link; ComponentLink2URL: http://digikey.com/product-detail/en/w-rth-elektronik/824501401/732-9960-1-ND/5871113; LastUpdated: 9/2/2020 1:27:53 AM; Lifecycle Status: Active; Minimum Order: 1; Mounting Type: Surface Mount; Operating Temperature: -65°C ~ 150°C (TJ); Package / Case: DO-214AC, SMA; Packaging: TapeAndReel; PartId: 7635; Part Status: Active; Price: 0.17; Series: WE-TVSP; Supplier 1: DigiKey; Supplier Part Number 1: 732-9960-1-ND; Supplier Device Package: DO-214AC; Voltage - Clamping (Max) @ Ipp: 64.5V
footprint DO214AC SMA
pins: 1, 2

## 824501431
designator D?
TVS DIODE 43V 69.4V DO214AC; Manufacturer: Würth Elektronik; Bidirectional Channels: 1; Current - Peak Pulse (10/1000µs): 5.8A; Power Line Protection: No; Power - Peak Pulse: 400W; Type: Zener; Voltage - Breakdown (Min): 50.3V (Typ); Voltage - Reverse Standoff (Typ): 43V (Max); Part Number: 824501431; Applications: General Purpose; ComponentLink1Description: Datasheet; ComponentLink1URL: https://katalog.we-online.de/pbs/datasheet/824501431.pdf; ComponentLink2Description: DigiKey Link; ComponentLink2URL: http://digikey.com/product-detail/en/w-rth-elektronik/824501431/732-9961-1-ND/5871114; LastUpdated: 9/2/2020 1:27:53 AM; Lifecycle Status: Active; Minimum Order: 1; Mounting Type: Surface Mount; Operating Temperature: -65°C ~ 150°C (TJ); Package / Case: DO-214AC, SMA; Packaging: TapeAndReel; PartId: 7638; Part Status: Active; Price: 0.17; Series: WE-TVSP; Supplier 1: DigiKey; Supplier Part Number 1: 732-9961-1-ND; Supplier Device Package: DO-214AC; Voltage - Clamping (Max) @ Ipp: 69.4V
footprint DO214AC SMA
pins: 1, 2

## 824501451
designator D?
TVS DIODE 45V 72.7V DO214AC; Manufacturer: Würth Elektronik; Bidirectional Channels: 1; Current - Peak Pulse (10/1000µs): 5.5A; Power Line Protection: No; Power - Peak Pulse: 400W; Type: Zener; Voltage - Breakdown (Min): 52.65V (Typ); Voltage - Reverse Standoff (Typ): 45V (Max); Part Number: 824501451; Applications: General Purpose; ComponentLink1Description: Datasheet; ComponentLink1URL: https://katalog.we-online.de/pbs/datasheet/824501451.pdf; ComponentLink2Description: DigiKey Link; ComponentLink2URL: http://digikey.com/product-detail/en/w-rth-elektronik/824501451/732-9962-1-ND/5871115; LastUpdated: 9/2/2020 1:27:53 AM; Lifecycle Status: Active; Minimum Order: 1; Mounting Type: Surface Mount; Operating Temperature: -65°C ~ 150°C (TJ); Package / Case: DO-214AC, SMA; Packaging: TapeAndReel; PartId: 7632; Part Status: Active; Price: 0.17; Series: WE-TVSP; Supplier 1: DigiKey; Supplier Part Number 1: 732-9962-1-ND; Supplier Device Package: DO-214AC; Voltage - Clamping (Max) @ Ipp: 72.7V
footprint DO214AC SMA
pins: 1, 2

## 824501500
designator D?
TVS DIODE 5V 9.2V DO214AC; Manufacturer: Würth Elektronik; Bidirectional Channels: 1; Current - Peak Pulse (10/1000µs): 43.5A; Power Line Protection: No; Power - Peak Pulse: 400W; Type: Zener; Voltage - Breakdown (Min): 6.7V (Typ); Voltage - Reverse Standoff (Typ): 5V (Max); Part Number: 824501500; Applications: General Purpose; ComponentLink1Description: Datasheet; ComponentLink1URL: https://katalog.we-online.de/pbs/datasheet/824501500.pdf; ComponentLink2Description: DigiKey Link; ComponentLink2URL: http://digikey.com/product-detail/en/w-rth-elektronik/824501500/732-9939-1-ND/5871093; LastUpdated: 9/2/2020 1:27:55 AM; Lifecycle Status: Active; Minimum Order: 1; Mounting Type: Surface Mount; Operating Temperature: -65°C ~ 150°C (TJ); Package / Case: DO-214AC, SMA; Packaging: TapeAndReel; PartId: 7820; Part Status: Active; Price: 0.17; Series: WE-TVSP; Supplier 1: DigiKey; Supplier Part Number 1: 732-9939-1-ND; Supplier Device Package: DO-214AC; Voltage - Clamping (Max) @ Ipp: 9.2V
footprint DO214AC SMA
pins: 1, 2

## 824501511
designator D?
TVS DIODE 51V 82.4V DO214AC; Manufacturer: Würth Elektronik; Bidirectional Channels: 1; Current - Peak Pulse (10/1000µs): 4.9A; Power Line Protection: No; Power - Peak Pulse: 400W; Type: Zener; Voltage - Breakdown (Min): 59.7V (Typ); Voltage - Reverse Standoff (Typ): 51V (Max); Part Number: 824501511; Applications: General Purpose; ComponentLink1Description: Datasheet; ComponentLink1URL: https://katalog.we-online.de/pbs/datasheet/824501511.pdf; ComponentLink2Description: DigiKey Link; ComponentLink2URL: http://digikey.com/product-detail/en/w-rth-elektronik/824501511/732-9963-1-ND/5871116; LastUpdated: 9/2/2020 1:27:53 AM; Lifecycle Status: Active; Minimum Order: 1; Mounting Type: Surface Mount; Operating Temperature: -65°C ~ 150°C (TJ); Package / Case: DO-214AC, SMA; Packaging: TapeAndReel; PartId: 7630; Part Status: Active; Price: 0.17; Series: WE-TVSP; Supplier 1: DigiKey; Supplier Part Number 1: 732-9963-1-ND; Supplier Device Package: DO-214AC; Voltage - Clamping (Max) @ Ipp: 82.4V
footprint DO214AC SMA
pins: 1, 2

## 824501541
designator D?
TVS DIODE 54V 87.1V DO214AC; Manufacturer: Würth Elektronik; Bidirectional Channels: 1; Current - Peak Pulse (10/1000µs): 4.6A; Power Line Protection: No; Power - Peak Pulse: 400W; Type: Zener; Voltage - Breakdown (Min): 63.15V (Typ); Voltage - Reverse Standoff (Typ): 54V (Max); Part Number: 824501541; Applications: General Purpose; ComponentLink1Description: Datasheet; ComponentLink1URL: https://katalog.we-online.de/pbs/datasheet/824501541.pdf; ComponentLink2Description: DigiKey Link; ComponentLink2URL: http://digikey.com/product-detail/en/w-rth-elektronik/824501541/732-9964-1-ND/5871117; LastUpdated: 9/2/2020 1:27:53 AM; Lifecycle Status: Active; Minimum Order: 1; Mounting Type: Surface Mount; Operating Temperature: -65°C ~ 150°C (TJ); Package / Case: DO-214AC, SMA; Packaging: TapeAndReel; PartId: 7633; Part Status: Active; Price: 0.17; Series: WE-TVSP; Supplier 1: DigiKey; Supplier Part Number 1: 732-9964-1-ND; Supplier Device Package: DO-214AC; Voltage - Clamping (Max) @ Ipp: 87.1V
footprint DO214AC SMA
pins: 1, 2

## 824520101
designator D?
TVS DIODE 10V 17V DO214AA; Manufacturer: Würth Elektronik; Current - Peak Pulse (10/1000µs): 35.3A; Power Line Protection: No; Power - Peak Pulse: 600W; Type: Zener; Unidirectional Channels: 1; Voltage - Breakdown (Min): 11.7V (Typ); Voltage - Reverse Standoff (Typ): 10V (Max); Part Number: 824520101; Applications: General Purpose; ComponentLink1Description: Datasheet; ComponentLink1URL: https://katalog.we-online.de/pbs/datasheet/824520101.pdf; ComponentLink2Description: DigiKey Link; ComponentLink2URL: http://digikey.com/product-detail/en/w-rth-elektronik/824520101/732-9772-1-ND/5870926; LastUpdated: 9/2/2020 1:19:49 AM; Lifecycle Status: Active; Minimum Order: 0; Mounting Type: Surface Mount; Operating Temperature: -65°C ~ 150°C (TJ); Package / Case: DO-214AA, SMB; Packaging: TapeAndReel; PartId: 11157; Part Status: Active; Price: 0.24; Series: WE-TVSP; Supplier 1: DigiKey; Supplier Part Number 1: 732-9772-1-ND; Supplier Device Package: DO-214AA; Voltage - Clamping (Max) @ Ipp: 17V
footprint DO214AA SMB
pins: 1, 2

## 824520121
designator D?
TVS DIODE 12V 19.9V DO214AA; Manufacturer: Würth Elektronik; Current - Peak Pulse (10/1000µs): 30.2A; Power Line Protection: No; Power - Peak Pulse: 600W; Type: Zener; Unidirectional Channels: 1; Voltage - Breakdown (Min): 14V (Typ); Voltage - Reverse Standoff (Typ): 12V (Max); Part Number: 824520121; Applications: General Purpose; ComponentLink1Description: Datasheet; ComponentLink1URL: https://katalog.we-online.de/pbs/datasheet/824520121.pdf; ComponentLink2Description: DigiKey Link; ComponentLink2URL: http://digikey.com/product-detail/en/w-rth-elektronik/824520121/732-9774-1-ND/5870928; LastUpdated: 9/2/2020 1:19:51 AM; Lifecycle Status: Active; Minimum Order: 1; Mounting Type: Surface Mount; Operating Temperature: -65°C ~ 150°C (TJ); Package / Case: DO-214AA, SMB; Packaging: TapeAndReel; PartId: 11325; Part Status: Active; Price: 0.24; Series: WE-TVSP; Supplier 1: DigiKey; Supplier Part Number 1: 732-9774-1-ND; Supplier Device Package: DO-214AA; Voltage - Clamping (Max) @ Ipp: 19.9V
footprint DO214AA SMB
pins: 1, 2

## 824520301
designator D?
TVS DIODE 30V 48.4V DO214AA; Manufacturer: Würth Elektronik; Current - Peak Pulse (10/1000µs): 12.4A; Power Line Protection: No; Power - Peak Pulse: 600W; Type: Zener; Unidirectional Channels: 1; Voltage - Breakdown (Min): 35.05V (Typ); Voltage - Reverse Standoff (Typ): 30V (Max); Part Number: 824520301; Applications: General Purpose; ComponentLink1Description: Datasheet; ComponentLink1URL: https://katalog.we-online.de/pbs/datasheet/824520301.pdf; ComponentLink2Description: DigiKey Link; ComponentLink2URL: http://digikey.com/product-detail/en/w-rth-elektronik/824520301/732-9782-1-ND/5870936; LastUpdated: 9/2/2020 1:19:49 AM; Lifecycle Status: Active; Minimum Order: 1; Mounting Type: Surface Mount; Operating Temperature: -65°C ~ 150°C (TJ); Package / Case: DO-214AA, SMB; Packaging: TapeAndReel; PartId: 11151; Part Status: Active; Price: 0.24; Series: WE-TVSP; Supplier 1: DigiKey; Supplier Part Number 1: 732-9782-1-ND; Supplier Device Package: DO-214AA; Voltage - Clamping (Max) @ Ipp: 48.4V
footprint DO214AA SMB
pins: 1, 2

## 824520302
designator D?
WE-TVSP POWER TVS DIODE; Manufacturer: Würth Elektronik; Current - Peak Pulse (10/1000µs): 100A; Power Line Protection: No; Type: Zener; Unidirectional Channels: 1; Voltage - Breakdown (Min): 353V; Voltage - Clamping (Max) @ Ipp: 486V; Voltage - Reverse Standoff (Typ): 300V (Max); Part Number: 824520302; Applications: General Purpose; ComponentLink2Description: DigiKey Link; ComponentLink2URL: http://digikey.com/product-detail/en/würth-elektronik/824520302/732-824520302CT-ND/12728095; LastUpdated: 8/30/2020 9:00:52 PM; Lifecycle Status: Active; Minimum Order: 1; Mounting Type: Surface Mount; Operating Temperature: -65°C ~ 150°C (TA); Package / Case: DO-214AA, SMB; Packaging: TapeAndReel; PartId: 11468; Price: 0.54; Series: WE-TVSP; Supplier 1: DigiKey; Supplier Part Number 1: 732-824520302CT-ND; Supplier Device Package: DO-214AA
footprint DO214AA SMB
pins: 1, 2

## 824520331
designator D?
TVS DIODE 33V 53.3V DO214AA; Manufacturer: Würth Elektronik; Current - Peak Pulse (10/1000µs): 11.3A; Power Line Protection: No; Power - Peak Pulse: 600W; Type: Zener; Unidirectional Channels: 1; Voltage - Breakdown (Min): 38.65V (Typ); Voltage - Reverse Standoff (Typ): 33V (Max); Part Number: 824520331; Applications: General Purpose; ComponentLink1Description: Datasheet; ComponentLink1URL: https://katalog.we-online.de/pbs/datasheet/824520331.pdf; ComponentLink2Description: DigiKey Link; ComponentLink2URL: http://digikey.com/product-detail/en/w-rth-elektronik/824520331/732-9783-1-ND/5870937; LastUpdated: 9/2/2020 1:19:49 AM; Lifecycle Status: Active; Minimum Order: 1; Mounting Type: Surface Mount; Operating Temperature: -65°C ~ 150°C (TJ); Package / Case: DO-214AA, SMB; Packaging: TapeAndReel; PartId: 11149; Part Status: Active; Price: 0.24; Series: WE-TVSP; Supplier 1: DigiKey; Supplier Part Number 1: 732-9783-1-ND; Supplier Device Package: DO-214AA; Voltage - Clamping (Max) @ Ipp: 53.3V
footprint DO214AA SMB
pins: 1, 2

## 824520352
designator D?
WE-TVSP POWER TVS DIODE; Manufacturer: Würth Elektronik; Current - Peak Pulse (10/1000µs): 100A; Power Line Protection: No; Type: Zener; Unidirectional Channels: 1; Voltage - Breakdown (Min): 411.5V; Voltage - Clamping (Max) @ Ipp: 567V; Voltage - Reverse Standoff (Typ): 350V (Max); Part Number: 824520352; Applications: General Purpose; ComponentLink2Description: DigiKey Link; ComponentLink2URL: http://digikey.com/product-detail/en/würth-elektronik/824520352/732-824520352CT-ND/12727035; LastUpdated: 8/30/2020 9:00:52 PM; Lifecycle Status: Active; Minimum Order: 1; Mounting Type: Surface Mount; Operating Temperature: -65°C ~ 150°C (TA); Package / Case: DO-214AA, SMB; Packaging: TapeAndReel; PartId: 11469; Price: 0.47; Series: WE-TVSP; Supplier 1: DigiKey; Supplier Part Number 1: 732-824520352CT-ND; Supplier Device Package: DO-214AA
footprint DO214AA SMB
pins: 1, 2

## 824520500
designator D?
TVS DIODE 5V 9.2V DO214AA; Manufacturer: Würth Elektronik; Current - Peak Pulse (10/1000µs): 65.3A; Power Line Protection: No; Power - Peak Pulse: 600W; Type: Zener; Unidirectional Channels: 1; Voltage - Breakdown (Min): 6.7V (Typ); Voltage - Reverse Standoff (Typ): 5V (Max); Part Number: 824520500; Applications: General Purpose; ComponentLink1Description: Datasheet; ComponentLink1URL: https://katalog.we-online.de/pbs/datasheet/824520500.pdf; ComponentLink2Description: DigiKey Link; ComponentLink2URL: http://digikey.com/product-detail/en/w-rth-elektronik/824520500/732-9764-1-ND/5870918; LastUpdated: 9/2/2020 1:19:51 AM; Lifecycle Status: Active; Minimum Order: 1; Mounting Type: Surface Mount; Operating Temperature: -65°C ~ 150°C (TJ); Package / Case: DO-214AA, SMB; Packaging: TapeAndReel; PartId: 11326; Part Status: Active; Price: 0.24; Series: WE-TVSP; Supplier 1: DigiKey; Supplier Part Number 1: 732-9764-1-ND; Supplier Device Package: DO-214AA; Voltage - Clamping (Max) @ Ipp: 9.2V
footprint DO214AA SMB
pins: 1, 2